# Altium schematic symbol library test.SchLib: 1 symbol
Pins are listed as number, name and electrical type; pins without a type are passive.

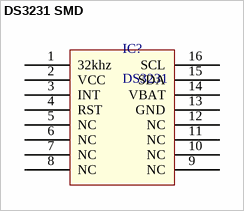
[diagram p0: symbol DS3231 SMD]

## DS3231 SMD
designator IC?, comment DS3231
Ma Hang: MH002604; Tên Linh kiện: DS3231N SOIC16; Chủng loại: Dán; Đơn Vị: Con
footprint SOP16 (SOP, 16-Leads, Body 10.30x7.50mm, Pitch 1.27mm, IPC Medium Density)
pins: 1 32khz, 2 VCC, 3 INT, 4 RST, 5 NC, 6 NC, 7 NC, 8 NC, 9 NC, 10 NC, 11 NC, 12 NC, 13 GND, 14 VBAT, 15 SDA, 16 SCL